# Altium schematic symbol library PTC_Heater.SchLib: 1 symbol
Pins are listed as number, name and electrical type; pins without a type are passive.

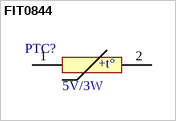
[diagram p0: symbol FIT0844]

## FIT0844
designator PTC?  value 5V/3W
PTC HEATER 5V 3W; Manufacturer Part Number 1: FIT0844; Manufacturer 1: DFRobot; ERP: *; Supplier Part Number 1: *; Supplier 1: *; Package: Chassis Mount
footprint FIT0844
pins: 1, 2
text: +t°